# EAGLE library part 6N134 (library ic)
Hewlett Packard CMOS Optocoupler
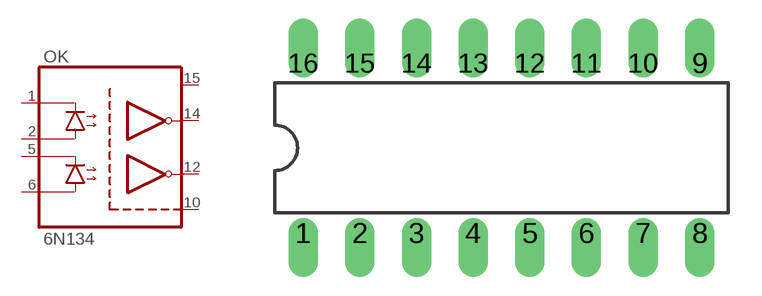
[diagram p1: symbol with the pads of DIL-16; footprint DIL-16]

Designator prefix OK

## 6N134D  [DIL-16]
1  KATHODE1  in
2  ANODE1  in
5  KATHODE2  in
6  ANODE2  in
10  GND  pwr
12  VOUT2  out
14  VOUT1  out
15  VCC  pwr

## Footprint DIL-16 (pad centres in mm)
Dual In Line Package
drill 0.813 offset: 1 -7.62,-3.81; 2 -5.08,-3.81; 3 -2.54,-3.81; 4 0,-3.81; 5 2.54,-3.81; 6 5.08,-3.81; 7 7.62,-3.81; 8 10.16,-3.81; 9 10.16,3.81; 10 7.62,3.81; 11 5.08,3.81; 12 2.54,3.81; 13 0,3.81; 14 -2.54,3.81; 15 -5.08,3.81; 16 -7.62,3.81